# Altium footprint library SparkFun-DiscreteSemi.PCBLIB: 47 footprints (part 2 of 3)
Each footprint in its own frame and in the unit in brackets; x right, y up, seen from the top. Pads: shape width x height; smd on the part's side, far side on the other; paste and mask are expansions set on the pad; w line width, h text height; cw(c..) or ccw(c..) is an arc to the next point about the centre after c.
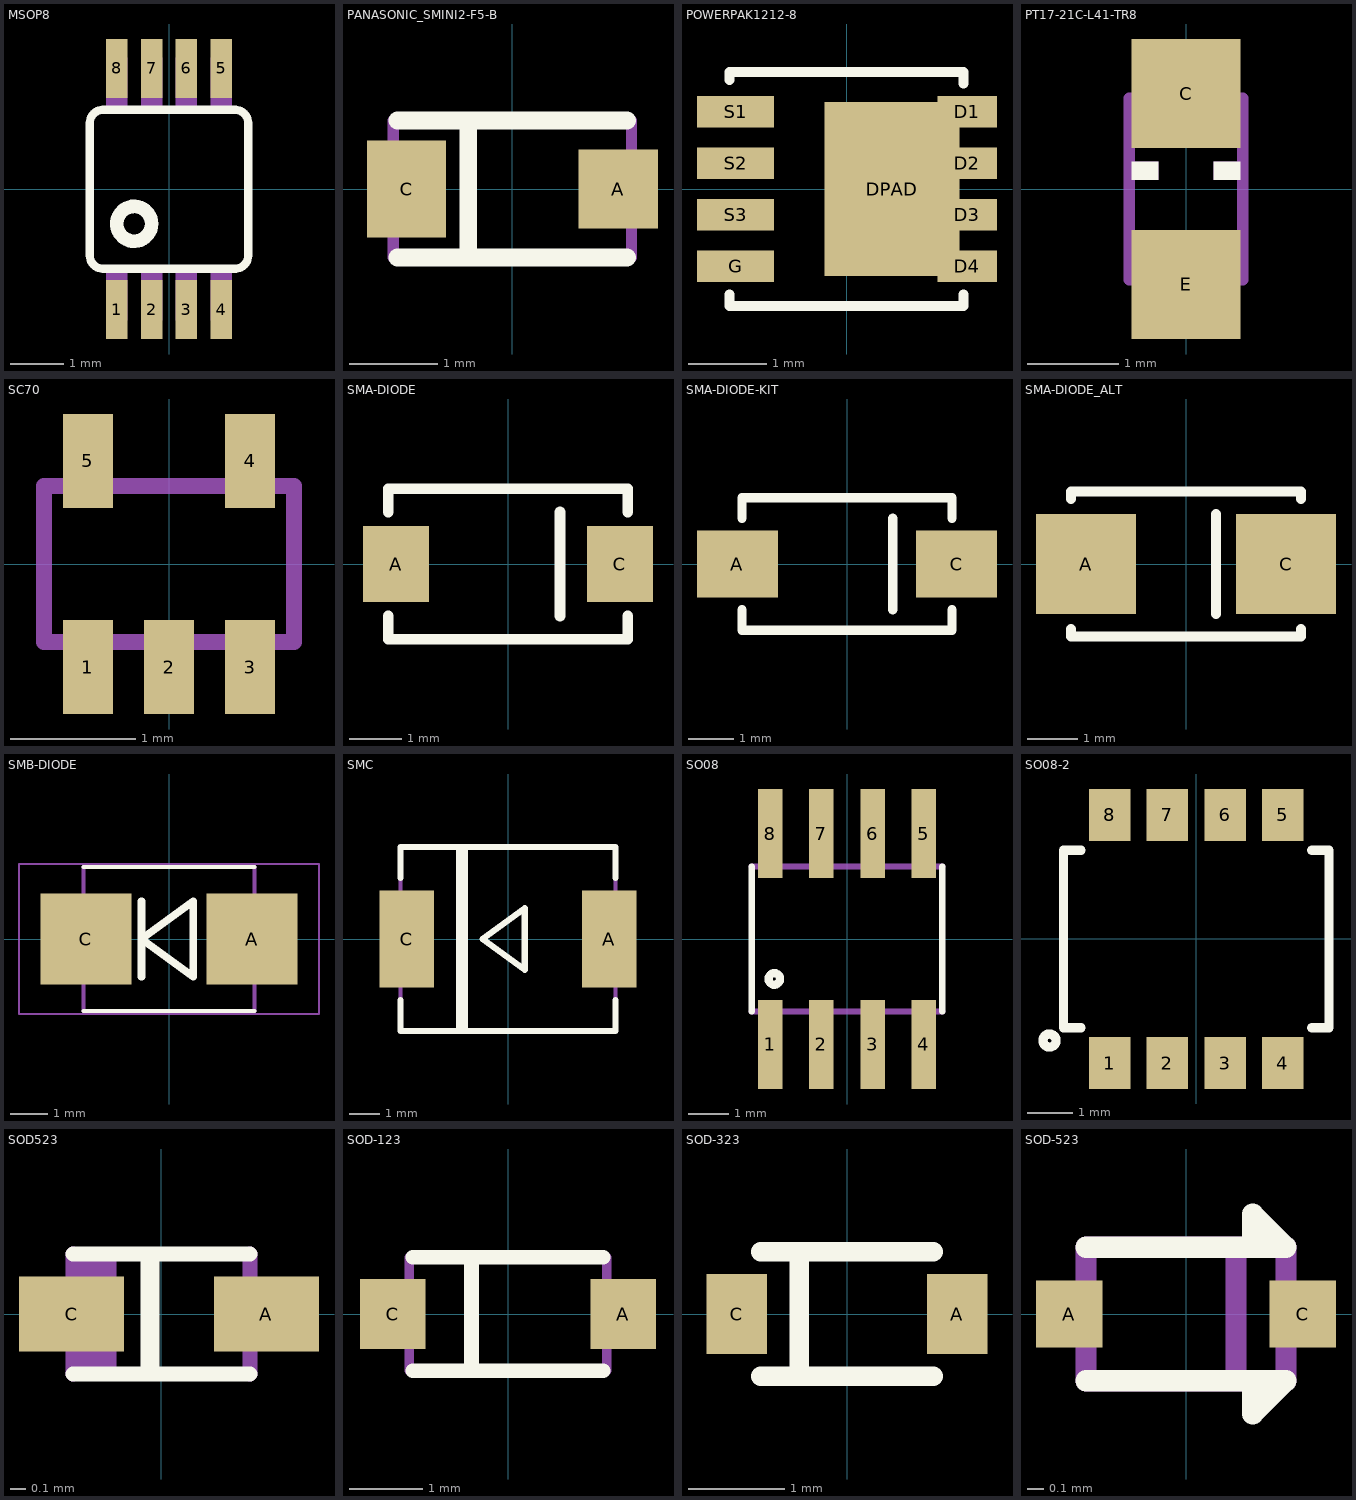
[diagram p1: the footprints below, top view; thin cyan lines are the x and y axes]

## MSOP8 [mil]
pads (8):
  rect 15.75x43.31 smd: 1(-38.39,-88.58) 2(-12.8,-88.58) 3(12.8,-88.58) 4(38.39,-88.58) 5(38.39,88.58) 6(12.8,88.58) 7(-12.8,88.58) 8(-38.39,88.58)
Top Overlay:
  circle w10: c-25.59,-25.59 r12.8
  lines w6: -58.27,-48.82 ccw(c-48.43,-48.82) -48.43,-58.66 ; -58.27,-48.43 -58.27,48.43 cw(c-48.43,48.43) -48.43,58.27 ; -48.03,-58.66 48.82,-58.66 ; -48.03,58.27 48.82,58.27 ; 48.43,-58.66 ccw(c48.43,-48.82) 58.27,-48.82 58.27,48.43 ccw(c48.43,48.43) 48.43,58.27
Mechanical 16:
  rectangle: -46.26,-96.46 -30.51,-61.02
  rectangle: -20.67,-96.46 -4.92,-61.02
  rectangle: 4.92,-96.46 20.67,-61.02
  rectangle: 30.51,-96.46 46.26,-61.02
  rectangle: 30.51,61.02 46.26,96.46
  rectangle: 4.92,61.02 20.67,96.46
  rectangle: -20.67,61.02 -4.92,96.46
  rectangle: -46.26,61.02 -30.51,96.46

## PANASONIC_SMINI2-F5-B [mil]
pads (2):
  rect 35.43x35.43 smd: A(47.24,0)
  rect 35.43x43.31 smd: C(-47.24,0)
Top Overlay:
  lines w8: -51.18,-30.51 -19.69,-30.51 ; -51.18,30.51 -19.69,30.51 ; 51.18,-30.51 -19.69,-30.51 ; 51.18,30.51 -19.69,30.51 ; -19.69,-30.51 -19.69,30.51
Mechanical 16:
  lines w5: -53.15,-30.51 53.15,-30.51 53.15,30.51 -53.15,30.51 -53.15,-30.51

## POWERPAK1212-8 [mil]
pads (9):
  rect 30x16 smd: D1(61,39) D2(61,13) D3(61,-13) D4(61,-39)
  rect 68x88 smd: DPAD(23,0)
  rect 39x16 smd: G(-56,-39) S1(-56,39) S2(-56,13) S3(-56,-13)
Top Overlay:
  lines w5: -59.06,-53.15 -59.06,-59.06 59.06,-59.06 59.06,-53.15 ; -59.06,55.12 -59.06,59.06 59.06,59.06 59.06,53.15

## PT17-21C-L41-TR8 [mil]
pads (2):
  rect 47.24x47.24 smd: C(0,41.34) E(0,-41.34)
Top Overlay:
  rectangle: 11.81,3.94 23.62,11.81
  rectangle: -23.62,3.94 -11.81,11.81
Mechanical 16:
  rectangle: -23.62,3.94 -11.81,11.81
  rectangle: 11.81,3.94 23.62,11.81
  lines w5: -15.75,39.37 ccw(c0,39.37) 15.75,39.37 ; -13.78,-31.5 -24.61,-31.5 ; 13.78,-31.5 23.62,-31.5 ; -24.61,-31.5 -24.61,-39.37 -15.75,-39.37 ; -24.61,-31.5 -24.61,39.37 24.61,39.37 24.61,-39.37 15.75,-39.37 ; -15.75,-39.37 15.75,-39.37 ; -15.75,-39.37 cw(c0,-39.37) 15.75,-39.37

## SC70 [mm]
pads (5):
  rect 0.4x0.75 smd: 1(-0.65,-0.825) 2(0,-0.825) 3(0.65,-0.825) 4(0.65,0.825) 5(-0.65,0.825)
Top Paste:
  rectangle: -0.85,0.45 -0.45,1.2
  rectangle: 0.45,0.45 0.85,1.2
  rectangle: -0.838,-1.168 -0.508,-0.483
  rectangle: -0.165,-1.168 0.165,-0.483
  rectangle: 0.508,-1.168 0.838,-0.483
Mechanical 16:
  lines w0.127: -1,-0.625 -1,0.625 1,0.625 1,-0.625 -1,-0.625

## SMA-DIODE [mil]
pads (2):
  rect 50x57.87 smd: A(-84.65,0) C(84.65,0)
Top Overlay:
  lines w8: -90.55,-39.37 -90.55,-57.09 90.55,-57.09 90.55,-39.37 ; -90.55,39.37 -90.55,57.09 90.55,57.09 90.55,39.37 ; 39.37,-39.37 39.37,39.37

## SMA-DIODE-KIT [mil]
pads (2):
  rect 69.69x57.87 smd: A(-94.49,0) C(94.49,0)
Top Overlay:
  lines w8: -90.55,-39.37 -90.55,-57.09 90.55,-57.09 90.55,-39.37 ; -90.55,39.37 -90.55,57.09 90.55,57.09 90.55,39.37 ; 39.37,-39.37 39.37,39.37

## SMA-DIODE_ALT [mm]
pads (2):
  rect 2x2 smd: A(-2,0) C(2,0)
Top Overlay:
  lines w0.203: -2.3,-1.3 -2.3,-1.45 2.3,-1.45 2.3,-1.3 ; -2.3,1.3 -2.3,1.45 2.3,1.45 2.3,1.3 ; 0.6,-1 0.6,1

## SMB-DIODE [mil]
pads (2):
  rect 94.49x94.49 smd: A(86.61,0) C(-86.61,0)
Top Overlay:
  lines w4: -89,-75 89,-75 ; -89,75 89,75
  lines w8: -28.74,-39.37 -28.74,39.37 ; -28.74,0 25.32,39.37 25.32,-39.37 -28.74,0
Mechanical 16:
  rectangle: -110,-43 -89,43
  rectangle: 89,-43 110,43
  lines w4: -89.02,-75 -89.02,75 ; 89.02,-75 89.02,75
Mechanical 27:
  lines w2: -156.42,-78.07 156.42,-78.07 156.42,78.07 -156.42,78.07 -156.42,-78.07

## SMC [mil]
pads (2):
  rect 70x125 smd: A(130,0) C(-130,0)
Top Overlay:
  rectangle: -66.93,-118.11 -51.18,118.11
  lines w8: -137.8,-78.74 -137.8,-118.11 137.8,-118.11 137.8,-78.74 ; -137.8,78.74 -137.8,118.11 137.8,118.11 137.8,78.74 ; -32.68,0 21.38,39.37 21.38,-39.37 -32.68,0
Mechanical 16:
  rectangle: -157.48,-59.06 -137.8,59.06
  rectangle: 137.8,-59.06 157.48,59.06
  lines w5: -137.8,-118.11 -137.8,118.11 ; 137.8,-118.11 137.8,118.11

## SO08 [mil]
pads (8):
  rect 24x87 smd: 1(-75,-103) 2(-25,-103) 3(25,-103) 4(75,-103) 5(75,103) 6(25,103) 7(-25,103) 8(-75,103)
Top Overlay:
  circle w8: c-71,-39 r5.65
  lines w6: -92.99,-70.98 -92.99,70.98 ; 92.99,-70.98 92.99,70.98
Mechanical 16:
  rectangle: -82,-113 -68,-73
  rectangle: -32,-113 -18,-73
  rectangle: 18,-113 32,-73
  rectangle: 68,-113 82,-73
  rectangle: -82,73 -68,113
  rectangle: -32,73 -18,113
  rectangle: 18,73 32,113
  rectangle: 68,73 82,113
  lines w6: -92.99,-70.98 92.99,-70.98 ; -92.99,70.98 92.99,70.98

## SO08-2 [mil]
pads (8):
  rect 36x45 smd: 1(-75,-107.5) 2(-25,-107.5) 3(25,-107.5) 4(75,-107.5) 5(75,107.5) 6(25,107.5) 7(-25,107.5) 8(-75,107.5)
Top Overlay:
  circle w8: c-127.2,-88 r5.65
  lines w8: -100,-77 -115,-77 -115,77 -100,77 ; 100,-77 115,-77 115,77 100,77

## SOD523 [mil]
pads (2):
  rect 27.56x19.69 smd: A(27.56,0) C(-23.62,0)
Top Overlay:
  rectangle: -5.5,-15.5 -0.5,15
  lines w4: -23.23,-15.75 23.23,-15.75 ; -23.23,15.75 23.23,15.75
Mechanical 16:
  rectangle: -29.53,-6.69 -21.26,6.69
  rectangle: 21.26,-6.69 29.53,6.69
  rectangle: -23.23,-15.75 -11.81,15.75
  lines w4: -23.23,-15.75 -23.23,15.75 ; 23.23,-15.75 23.23,15.75

## SOD-123 [mil]
pads (2):
  rect 35.43x37.4 smd: A(62.01,0) C(-62.01,0)
Top Overlay:
  lines w8: -51.18,-30.51 -19.69,-30.51 ; -51.18,30.51 -19.69,30.51 ; 51.18,-30.51 -19.69,-30.51 ; 51.18,30.51 -19.69,30.51 ; -19.69,-30.51 -19.69,30.51
Mechanical 16:
  lines w5: -53.15,-30.51 53.15,-30.51 53.15,30.51 -53.15,30.51 -53.15,-30.51

## SOD-323 [mil]
pads (2):
  rect 24.8x32.68 smd: A(45.28,0) C(-45.28,0)
Top Overlay:
  lines w8: -35.43,-25.59 -19.69,-25.59 ; -35.43,25.59 -19.69,25.59 ; 35.43,-25.59 -19.69,-25.59 ; 35.43,25.59 -19.69,25.59 ; -19.69,-25.59 -19.69,25.59

## SOD-523 [mil]
pads (2):
  rect 15.75x15.75 smd: A(-27.56,0) C(27.56,0)
Top Overlay:
  lines w5: -23.62,-15.75 15.75,-15.75 ; -23.62,15.75 15.75,15.75 ; 15.75,-15.75 23.62,-15.75 15.75,-23.62 15.75,-15.75 ; 15.75,15.75 23.62,15.75 15.75,23.62 15.75,15.75
Mechanical 16:
  lines w5: -23.62,-3.94 -23.62,3.94 ; -23.62,-3.94 -23.62,-15.75 11.81,-15.75 ; -23.62,-3.94 -31.5,-3.94 -31.5,3.94 -23.62,3.94 ; -23.62,3.94 -23.62,15.75 11.81,15.75 ; 11.81,-15.75 23.62,-15.75 23.62,-3.94 ; 11.81,-15.75 11.81,15.75 ; 11.81,15.75 23.62,15.75 23.62,3.94 ; 23.62,-3.94 23.62,3.94 ; 23.62,-3.94 31.5,-3.94 31.5,3.94 23.62,3.94